# EAGLE library part SCHUETZ_4P (library pkess_schuetze-relais)
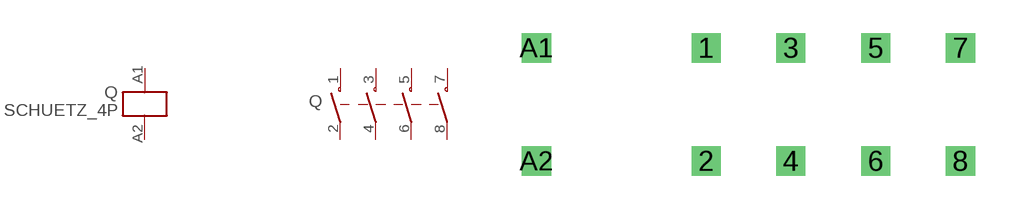
[diagram p1: symbol with the pads of GENERIC_SCHUETZ_4P; footprint GENERIC_SCHUETZ_4P]

Designator prefix Q; gates SPULE=SPULE G$1=SCHUETZ_4P

## SCHUETZ_4PGENERIC  [GENERIC_SCHUETZ_4P]
1  G$1:1  pas
2  G$1:2  pas
3  G$1:3  pas
4  G$1:4  pas
5  G$1:5  pas
6  G$1:6  pas
7  G$1:7  pas
8  G$1:8  pas
A1  SPULE:A1  in
A2  SPULE:A2  in

## Footprint GENERIC_SCHUETZ_4P (pad centres in mm)
drill 0.8 square: 1 -7.62,2.54; 2 -7.62,-2.54; 3 -3.81,2.54; 4 -3.81,-2.54; 5 0,2.54; 6 0,-2.54; 7 3.81,2.54; 8 3.81,-2.54; A1 -15.24,2.54; A2 -15.24,-2.54